# Altium schematic symbol library SCH_LIB.SchLib: 16 symbols
Pins are listed as number, name and electrical type; pins without a type are passive.

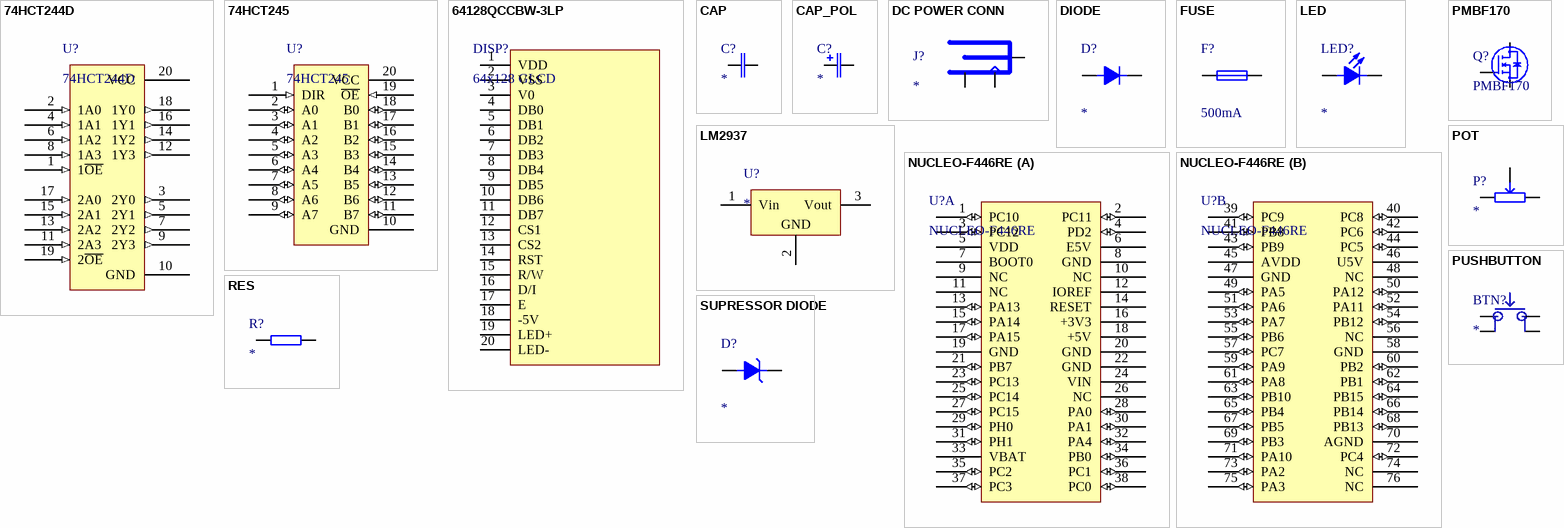
[diagram p0: symbols 74HCT244D to SUPRESSOR DIODE]

## 74HCT244D
designator U?
8xBuffer/Line Driver; Reference: 2444943; Name: 74HCT244D-Q100,118  Buffer / Line Driver, 74HCT244; Supplier: Farnell
footprint SO20
pins: 1 1~{OE} (in), 2 1A0 (in), 3 2Y0 (out), 4 1A1 (in), 5 2Y1 (out), 6 1A2 (in), 7 2Y2 (out), 8 1A3 (in), 9 2Y3 (out), 10 GND (power), 11 2A3 (in), 12 1Y3 (out), 13 2A2 (in), 14 1Y2 (out), 15 2A1 (in), 16 1Y1 (out), 17 2A0 (in), 18 1Y0 (out), 19 2~{OE} (in), 20 VCC (power)

## 74HCT245
designator U?
8x Bidirectional bus transciever; Reference: 1085315; Name: 74HCT245D  Transceiver, 74HCT245; Supplier: Farnell
footprint SO20
pins: 1 DIR (in), 2 A0 (io), 3 A1 (io), 4 A2 (io), 5 A3 (io), 6 A4 (io), 7 A5 (io), 8 A6 (io), 9 A7 (io), 10 GND (power), 11 B7 (io), 12 B6 (io), 13 B5 (io), 14 B4 (io), 15 B3 (io), 16 B2 (io), 17 B1 (io), 18 B0 (io), 19 ~{OE} (in), 20 VCC (power)

## 64128QCCBW-3LP
designator DISP?, comment 64x128 GLCD
64x128 pixel graphical LCD display from Displaytech; DISTRIBUTOR: LOMEX; REFERENCE ID: 37-00-71; VALUE: 64x128 GLCD
footprint 64128Q (64x128 pixel graphical LCD display)
pins: 1 VDD, 2 VSS, 3 V0, 4 DB0, 5 DB1, 6 DB2, 7 DB3, 8 DB4, 9 DB5, 10 DB6, 11 DB7, 12 CS1, 13 CS2, 14 RST, 15 R/W, 16 D/I, 17 E, 18 -5V, 19 LED+, 20 LED-

## CAP
designator C?
NON POLARIZED CAPACITOR; VALUE: *; REFERENCE ID: *; DISTRIBUTOR: *
footprint CAP 0805 (0805 CAPACITOR)
pins: 1, 2

## CAP_POL
designator C?
POLARIZED CAPACITOR; REFERENCE ID: *; DISTRIBUTOR: *; VALUE: *
footprint CAP 1210 (POLARIZED CAPACITOR)
footprint D8 ELKO (D8 size electrolit capacitor 6.3mmx7.7mm)
pins: 1 +, 2 -

## DC POWER CONN
designator J?
DC POWER CONNECTOR 5.5/2.1/9.5mm; DISTRIBUTOR: Lomex; REFERENCE ID: 43-07-67; VALUE: *
footprint DC POWER CONNECTOR (DC POWER CONNECTOR 5.5/2.1/9.5mm)
pins: 1 9V (power), 2 GND (power), 3 GND (power)

## DIODE
designator D?
DIODE; REFERENCE ID: *; VALUE: *; DISTRIBUTOR: *
footprint DO-214AC (SMA DO-214AC)
pins: 1 A, 2 K

## FUSE
designator F?, comment 500mA
FUSE; REFERENCE ID: 44-02-32; VALUE: 500mA; DISTRIBUTOR: LOMEX
footprint FUSE1812 (Multifuse)
pins: 1 2, 2

## LED
designator LED?
LED; REFERENCE ID: *; VALUE: *; DISTRIBUTOR: *
footprint LED 0805G (0805 GREEN LED)
pins: 1 A, 2 K

## LM2937
designator U?
SOT223; REFERENCE ID: *; DISTRIBUTOR: *; VALUE: *
footprint SOT223
pins: 1 Vin, 2 GND, 3 Vout

## NUCLEO-F446RE
designator U?
STM32F4xx Nucleo board; Name: Nucleo F446RE; Supplier: Tanszék; Reference: NUCLEO
footprint STM32F4xx_Nucleo (STM32F4xx Nucleo board)
part A pins: 1 PC10 (io), 2 PC11 (io), 3 PC12 (io), 4 PD2 (io), 5 VDD (power), 6 E5V (power), 7 BOOT0, 8 GND, 9 NC, 10 NC, 11 NC, 12 IOREF, 13 PA13 (io), 14 RESET, 15 PA14 (io), 16 +3V3 (power), 17 PA15 (io), 18 +5V (power), 19 GND, 20 GND, 21 PB7 (io), 22 GND, 23 PC13 (io), 24 VIN (power), 25 PC14 (io), 26 NC, 27 PC15 (io), 28 PA0 (io), 29 PH0 (io), 30 PA1 (io), 31 PH1 (io), 32 PA4 (io), 33 VBAT (power), 34 PB0 (io), 35 PC2 (io), 36 PC1 (io), 37 PC3 (io), 38 PC0 (io)
part B pins: 39 PC9 (io), 40 PC8 (io), 41 PB8 (io), 42 PC6 (io), 43 PB9 (io), 44 PC5 (io), 45 AVDD (power), 46 U5V (power), 47 GND, 48 NC, 49 PA5 (io), 50 PA12 (io), 51 PA6 (io), 52 PA11 (io), 53 PA7 (io), 54 PB12 (io), 55 PB6 (io), 56 NC, 57 PC7 (io), 58 GND, 59 PA9 (io), 60 PB2 (io), 61 PA8 (io), 62 PB1 (io), 63 PB10 (io), 64 PB15 (io), 65 PB4 (io), 66 PB14 (io), 67 PB5 (io), 68 PB13 (io), 69 PB3 (io), 70 AGND, 71 PA10 (io), 72 PC4 (io), 73 PA2 (io), 74 NC, 75 PA3 (io), 76 NC

## PMBF170
designator Q?
N-Channel MOSFET; REFERENCE ID: 86-01-96; VALUE: PMBF170; DISTRIBUTOR: LOMEX
footprint SOT23
pins: 1 G, 2 S, 3 D

## POT
designator P?
RESISTOR; REFERENCE ID: *; DISTRIBUTOR: *; VALUE: *
footprint PT10 (10mm horizontal potentiometer)
pins: 1, 2, 3

## PUSHBUTTON
designator BTN?
Tactile push button; REFERENCE ID: *; DISTRIBUTOR: *; VALUE: *
footprint PBUTTON_SMD
pins: 1, 2, 3, 4

## RES
designator R?
RESISTOR; REFERENCE ID: *; DISTRIBUTOR: *; VALUE: *
footprint RES 0805 (0805 Resistor)
pins: 1, 2

## SUPRESSOR DIODE
designator D?
SUPRESSOR DIODE; REFERENCE ID: *; VALUE: *; DISTRIBUTOR: *
footprint DO-214AC (SMA DO-214AC)
pins: 1 A, 2 K